# Altium integrated library Infineon_Power_MOSFET.IntLib: 1448 symbols (part 45 of 47)
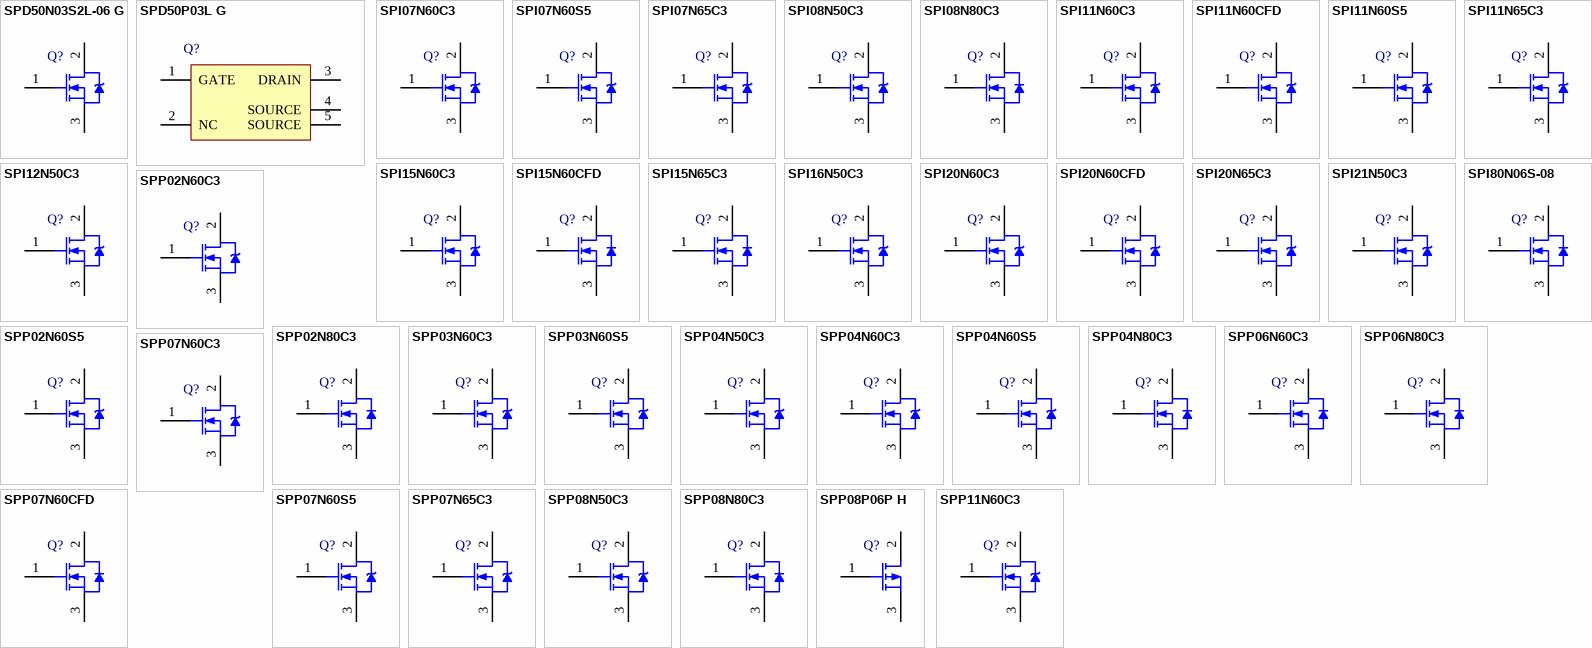
[diagram p81: symbols SPD50N03S2L-06 G to SPP11N60C3]

## SPP02N80C3
designator Q?
N-Channel CoolMOS Power-Transistor, 800 V VDS, 2 A ID, -55 to 150 degC, PG-TO220-3-1, Tube, Green; Manufacturer: Infineon; PartNumber: SPP02N80C3; Green: TRUE; ID (max): 2 A; IDpuls (max): 6 A; Polarity: N; Ptot (max): 42 W; QG: 12 nC; RDS (on) (max): 2,700 mOhm; Rth: 3 K/W; RthJA (max): 62 K/W; VDS (max): 800 V; VGS(th) (max): 3.9 V; VGS(th) (min): 2.1 V; DatasheetVersion: Rev. 2.91; PackageVersion: Jul-12; PackageReference: PG-TO220-3-1; PackageDescription: 3-Pin Plastic (Green) Transistor Single Outline Package, 10 x 9.25 mm Body, 2.54 mm Pitch; Supplier 1: Mouser; Supplier Part Number 1: 726-SPP02N80C3; Supplier 2: Digi-Key; Supplier Part Number 2: SPP02N80C3IN-ND; Halogen-free: TRUE; Packing: Tube; RthJC (max): 3 K/W; Technology: CoolMOS C3; Mounting Technology: Through Hole; ComponentLink1Description: Manufacturer URL; ComponentLink1URL: http://www.infineon.com/; ComponentLink2Description: Datasheet; ComponentLink2URL: http://www.infineon.com/dgdl/SPP02N80C3_rev2.91.pdf?folderId=db3a3043163797a6011638491238009b&fileId=db3a30432313ff5e0123a8f1e75f5c57; ComponentLink3Description: Package Specification; ComponentLink3URL: http://www.infineon.com/dgdl/BTS117_DS_14.pdf?folderId=db3a30431400ef68011421b54e2e0564&fileId=db3a30433a747525013abff8302d549c&location=en.Products.Automotive_ICs.Smart_High-_and_Low-Side_Switches.HITFET___TEMPFET__-_Smart_Low-Side_Switches.DATASHEET.BTS117_DS_14.pdf
footprint INF-PG-TO220-3-1 (FM, 3-Leads, Body 10x4.4mm, Pitch 2.54mm)
pins: 1 GATE, 2 DRAIN, 3 SOURCE

## SPP03N60C3
designator Q?
N-Channel CoolMOS Power-Transistor, 600 V VDS, 3.2 A ID, -55 to 150 degC, PG-TO220-3-1, Tube, Green; Manufacturer: Infineon; PartNumber: SPP03N60C3; Green: TRUE; ID (max): 3.2 A; IDpuls (max): 9.6 A; Polarity: N; Ptot (max): 38 W; QG: 13 nC; RDS (on) (max): 1,400 mOhm; Rth: 3.3 K/W; RthJA (max): 62 K/W; VDS (max): 600 V; VGS(th) (max): 3.9 V; VGS(th) (min): 2.1 V; DatasheetVersion: Rev. 3.1; PackageVersion: Jul-12; PackageReference: PG-TO220-3-1; PackageDescription: 3-Pin Plastic (Green) Transistor Single Outline Package, 10 x 9.25 mm Body, 2.54 mm Pitch; Supplier 1: Mouser; Supplier Part Number 1: 726-SPP03N60C3; Supplier 2: Digi-Key; Supplier Part Number 2: SPP03N60C3IN-ND; Packing: Tube; RthJC (max): 3.3 K/W; Technology: CoolMOS C3; Mounting Technology: Through Hole; ComponentLink1Description: Manufacturer URL; ComponentLink1URL: http://www.infineon.com/; ComponentLink2Description: Datasheet; ComponentLink2URL: http://www.infineon.com/dgdl/SPP_A03N60C3_Rev.3.1.pdf?folderId=db3a304412b407950112b408e8c90004&fileId=db3a304412b407950112b42dfb1c492b; ComponentLink3Description: Package Specification; ComponentLink3URL: http://www.infineon.com/dgdl/BTS117_DS_14.pdf?folderId=db3a30431400ef68011421b54e2e0564&fileId=db3a30433a747525013abff8302d549c&location=en.Products.Automotive_ICs.Smart_High-_and_Low-Side_Switches.HITFET___TEMPFET__-_Smart_Low-Side_Switches.DATASHEET.BTS117_DS_14.pdf
footprint INF-PG-TO220-3-1 (FM, 3-Leads, Body 10x4.4mm, Pitch 2.54mm)
pins: 1 GATE, 2 DRAIN, 3 SOURCE

## SPP03N60S5
designator Q?
N-Channel CoolMOS Power-Transistor, 600 V VDS, 3.2 A ID, -55 to 150 degC, PG-TO220-3-1, Tube, Green; Manufacturer: Infineon; PartNumber: SPP03N60S5; Green: TRUE; ID (max): 3.2 A; IDpuls (max): 5.7 A; Polarity: N; Ptot (max): 38 W; QG: 12.4 nC; RDS (on) (max): 1,400 mOhm; Rth: 3.3 K/W; RthJA (max): 62 K/W; VDS (max): 600 V; VGS(th) (max): 5.5 V; VGS(th) (min): 3.5 V; DatasheetVersion: Rev. 2.7; PackageVersion: Jul-12; PackageReference: PG-TO220-3-1; PackageDescription: 3-Pin Plastic (Green) Transistor Single Outline Package, 10 x 9.25 mm Body, 2.54 mm Pitch; Supplier 1: Mouser; Supplier Part Number 1: 726-SPP03N60S5; Supplier 2: Digi-Key; Supplier Part Number 2: SPP03N60S5IN-ND; Packing: Tube; RthJC (max): 3.3 K/W; Technology: CoolMOS S5; Mounting Technology: Through Hole; ComponentLink1Description: Manufacturer URL; ComponentLink1URL: http://www.infineon.com/; ComponentLink2Description: Datasheet; ComponentLink2URL: http://www.infineon.com/dgdl/SPP03N60S5_Rev.2.7.pdf?folderId=db3a304412b407950112b408e8c90004&fileId=db3a304412b407950112b42c7ad9470b; ComponentLink3Description: Package Specification; ComponentLink3URL: http://www.infineon.com/dgdl/BTS117_DS_14.pdf?folderId=db3a30431400ef68011421b54e2e0564&fileId=db3a30433a747525013abff8302d549c&location=en.Products.Automotive_ICs.Smart_High-_and_Low-Side_Switches.HITFET___TEMPFET__-_Smart_Low-Side_Switches.DATASHEET.BTS117_DS_14.pdf
footprint INF-PG-TO220-3-1 (FM, 3-Leads, Body 10x4.4mm, Pitch 2.54mm)
pins: 1 GATE, 2 DRAIN, 3 SOURCE

## SPP04N50C3
designator Q?
N-Channel CoolMOS Power-Transistor, 500 V VDS, 4.5 A ID, -55 to 150 degC, PG-TO220-3-1, Tube, Green; Manufacturer: Infineon; PartNumber: SPP04N50C3; Green: TRUE; ID (max): 4.5 A; IDpuls (max): 13.5 A; Polarity: N; Ptot (max): 50 W; QG: 22 nC; RDS (on) (max): 950 mOhm; Rth: 2.5 K/W; RthJA (max): 62 K/W; VDS (max): 500 V; VGS(th) (max): 3.9 V; VGS(th) (min): 2.1 V; DatasheetVersion: Rev. 2.9; PackageVersion: Jul-12; PackageReference: PG-TO220-3-1; PackageDescription: 3-Pin Plastic (Green) Transistor Single Outline Package, 10 x 9.25 mm Body, 2.54 mm Pitch; Supplier 1: Mouser; Supplier Part Number 1: 726-SPP04N50C3; Supplier 2: Farnell; Supplier Part Number 2: 2289562; Supplier 3: Digi-Key; Supplier Part Number 3: SPP04N50C3IN-ND; Packing: Tube; RthJC (max): 2.5 K/W; Technology: CoolMOS C3; Mounting Technology: Through Hole; ComponentLink1Description: Manufacturer URL; ComponentLink1URL: http://www.infineon.com/; ComponentLink2Description: Datasheet; ComponentLink2URL: http://www.infineon.com/dgdl/SPP_A04N50C3_Rev.2.9.pdf?folderId=db3a304412b407950112b408e8c90004&fileId=db3a304412b407950112b42cfc9247e4; ComponentLink3Description: Package Specification; ComponentLink3URL: http://www.infineon.com/dgdl/BTS117_DS_14.pdf?folderId=db3a30431400ef68011421b54e2e0564&fileId=db3a30433a747525013abff8302d549c&location=en.Products.Automotive_ICs.Smart_High-_and_Low-Side_Switches.HITFET___TEMPFET__-_Smart_Low-Side_Switches.DATASHEET.BTS117_DS_14.pdf
footprint INF-PG-TO220-3-1 (FM, 3-Leads, Body 10x4.4mm, Pitch 2.54mm)
pins: 1 GATE, 2 DRAIN, 3 SOURCE

## SPP04N60C3
designator Q?
N-Channel CoolMOS Power-Transistor, 600 V VDS, 4.5 A ID, -55 to 150 degC, PG-TO220-3-1, Tube, Green; Manufacturer: Infineon; PartNumber: SPP04N60C3; Green: TRUE; ID (max): 4.5 A; IDpuls (max): 13.5 A; Polarity: N; Ptot (max): 50 W; QG: 19 nC; RDS (on) (max): 950 mOhm; Rth: 2.5 K/W; RthJA (max): 62 K/W; VDS (max): 600 V; VGS(th) (max): 3.9 V; VGS(th) (min): 2.1 V; DatasheetVersion: Rev. 3.1; PackageVersion: Jul-12; PackageReference: PG-TO220-3-1; PackageDescription: 3-Pin Plastic (Green) Transistor Single Outline Package, 10 x 9.25 mm Body, 2.54 mm Pitch; Supplier 1: Mouser; Supplier Part Number 1: 726-SPP04N60C3; Supplier 2: Digi-Key; Supplier Part Number 2: SPP04N60C3IN-ND; Packing: Tube; RthJC (max): 2.5 K/W; Technology: CoolMOS C3; Mounting Technology: Through Hole; ComponentLink1Description: Manufacturer URL; ComponentLink1URL: http://www.infineon.com/; ComponentLink2Description: Datasheet; ComponentLink2URL: http://www.infineon.com/dgdl/SPP_A04N60C3_Rev.3.1.pdf?folderId=db3a304412b407950112b408e8c90004&fileId=db3a304412b407950112b42dd6a14900; ComponentLink3Description: Package Specification; ComponentLink3URL: http://www.infineon.com/dgdl/BTS117_DS_14.pdf?folderId=db3a30431400ef68011421b54e2e0564&fileId=db3a30433a747525013abff8302d549c&location=en.Products.Automotive_ICs.Smart_High-_and_Low-Side_Switches.HITFET___TEMPFET__-_Smart_Low-Side_Switches.DATASHEET.BTS117_DS_14.pdf
footprint INF-PG-TO220-3-1 (FM, 3-Leads, Body 10x4.4mm, Pitch 2.54mm)
pins: 1 GATE, 2 DRAIN, 3 SOURCE

## SPP04N60S5
designator Q?
Cool MOS Power Transistor, 600 V VDS, 4.5 A ID, PG-TO220-3-1, Tube, Green; Manufacturer: Infineon; PartNumber: SPP04N60S5; Green: TRUE; ID (max): 4.5 A; Polarity: N; RDS (on) (max): 950 mOhm; VDS (max): 600 V; DatasheetVersion: Rev. 2.7; PackageVersion: Jul-12; PackageReference: PG-TO220-3-1; PackageDescription: 3-Pin Plastic (Green) Transistor Single Outline Package, 10 x 9.25 mm Body, 2.54 mm Pitch; Supplier 1: Digi-Key; Supplier Part Number 1: SPP04N60S5IN-ND; Halogen-free: FALSE; Packing: Tube; Mounting Technology: Through Hole; ComponentLink1Description: Manufacturer URL; ComponentLink1URL: http://www.infineon.com/; ComponentLink2Description: Datasheet; ComponentLink2URL: http://www.infineon.com/dgdl/SPP04N60S5_Rev.2.7.pdf?folderId=db3a304412b407950112b408e8c90004&fileId=db3a304412b407950112b42c7dfe470f; ComponentLink3Description: Package Specification; ComponentLink3URL: http://www.infineon.com/dgdl/BTS117_DS_14.pdf?folderId=db3a30431400ef68011421b54e2e0564&fileId=db3a30433a747525013abff8302d549c&location=en.Products.Automotive_ICs.Smart_High-_and_Low-Side_Switches.HITFET___TEMPFET__-_Smart_Low-Side_Switches.DATASHEET.BTS117_DS_14.pdf
footprint INF-PG-TO220-3-1 (FM, 3-Leads, Body 10x4.4mm, Pitch 2.54mm)
pins: 1 GATE, 2 DRAIN, 3 SOURCE

## SPP04N80C3
designator Q?
N-Channel CoolMOS Power-Transistor, 800 V VDS, 4 A ID, -55 to 150 degC, PG-TO220-3-1, Tube, Green; Manufacturer: Infineon; PartNumber: SPP04N80C3; Green: TRUE; ID (max): 4 A; IDpuls (max): 12 A; Polarity: N; Ptot (max): 63 W; QG: 23 nC; RDS (on) (max): 1,300 mOhm; Rth: 2 K/W; RthJA (max): 62 K/W; VDS (max): 800 V; VGS(th) (max): 3.9 V; VGS(th) (min): 2.1 V; DatasheetVersion: Rev. 2.91; PackageVersion: Jul-12; PackageReference: PG-TO220-3-1; PackageDescription: 3-Pin Plastic (Green) Transistor Single Outline Package, 10 x 9.25 mm Body, 2.54 mm Pitch; Supplier 1: Mouser; Supplier Part Number 1: 726-SPP04N80C3; Supplier 2: Digi-Key; Supplier Part Number 2: SPP04N80C3IN-ND; Halogen-free: TRUE; Packing: Tube; RthJC (max): 2 K/W; Technology: CoolMOS C3; Mounting Technology: Through Hole; ComponentLink1Description: Manufacturer URL; ComponentLink1URL: http://www.infineon.com/; ComponentLink2Description: Datasheet; ComponentLink2URL: http://www.infineon.com/dgdl/SPP04N80C3_rev2.91.pdf?folderId=db3a3043163797a6011638491238009b&fileId=db3a30432313ff5e0123a8f71e205c68; ComponentLink3Description: Package Specification; ComponentLink3URL: http://www.infineon.com/dgdl/BTS117_DS_14.pdf?folderId=db3a30431400ef68011421b54e2e0564&fileId=db3a30433a747525013abff8302d549c&location=en.Products.Automotive_ICs.Smart_High-_and_Low-Side_Switches.HITFET___TEMPFET__-_Smart_Low-Side_Switches.DATASHEET.BTS117_DS_14.pdf
footprint INF-PG-TO220-3-1 (FM, 3-Leads, Body 10x4.4mm, Pitch 2.54mm)
pins: 1 GATE, 2 DRAIN, 3 SOURCE

## SPP06N60C3
designator Q?
N-Channel CoolMOS Power-Transistor, 600 V VDS, 6.2 A ID, -55 to 150 degC, PG-TO220-3-1, Tube, Green; Manufacturer: Infineon; PartNumber: SPP06N60C3; Green: TRUE; ID (max): 6.2 A; IDpuls (max): 18.6 A; Polarity: N; Ptot (max): 74 W; QG: 24 nC; RDS (on) (max): 750 mOhm; Rth: 1.7 K/W; RthJA (max): 62 K/W; VDS (max): 600 V; VGS(th) (max): 3.9 V; VGS(th) (min): 2.1 V; DatasheetVersion: Rev. 1.4; PackageVersion: Jul-12; PackageReference: PG-TO220-3-1; PackageDescription: 3-Pin Plastic (Green) Transistor Single Outline Package, 10 x 9.25 mm Body, 2.54 mm Pitch; Supplier 1: Mouser; Supplier Part Number 1: 726-SPP06N60C3; Supplier 2: Newark; Supplier Part Number 2: 62M0153; Supplier 3: Farnell; Supplier Part Number 3: 1471802; Supplier 4: Digi-Key; Supplier Part Number 4: SPP06N60C3IN-ND; Packing: Tube; RthJC (max): 1.7 K/W; Technology: CoolMOS C3; Mounting Technology: Through Hole; ComponentLink1Description: Manufacturer URL; ComponentLink1URL: http://www.infineon.com/; ComponentLink2Description: Datasheet; ComponentLink2URL: http://www.infineon.com/dgdl/SPP06N60C3_rev1.4.pdf?folderId=db3a304412b407950112b408e8c90004&fileId=db3a304412b407950112b42e2a60496d; ComponentLink3Description: Package Specification; ComponentLink3URL: http://www.infineon.com/dgdl/BTS117_DS_14.pdf?folderId=db3a30431400ef68011421b54e2e0564&fileId=db3a30433a747525013abff8302d549c&location=en.Products.Automotive_ICs.Smart_High-_and_Low-Side_Switches.HITFET___TEMPFET__-_Smart_Low-Side_Switches.DATASHEET.BTS117_DS_14.pdf
footprint INF-PG-TO220-3-1 (FM, 3-Leads, Body 10x4.4mm, Pitch 2.54mm)
pins: 1 GATE, 2 DRAIN, 3 SOURCE

## SPP06N80C3
designator Q?
N-Channel CoolMOS Power-Transistor, 800 V VDS, 6 A ID, -55 to 150 degC, PG-TO220-3-1, Tube, Green; Manufacturer: Infineon; PartNumber: SPP06N80C3; ID (max): 6 A; IDpuls (max): 18 A; Polarity: N; Ptot (max): 83 W; QG: 31 nC; RDS (on) (max): 900 mOhm; Rth: 1.5 K/W; RthJA (max): 62 K/W; VDS (max): 800 V; VGS(th) (max): 3.9 V; VGS(th) (min): 2.1 V; DatasheetVersion: Rev. 2.91; PackageVersion: Jul-12; PackageReference: PG-TO220-3-1; PackageDescription: 3-Pin Plastic (Green) Transistor Single Outline Package, 10 x 9.25 mm Body, 2.54 mm Pitch; Supplier 1: Mouser; Supplier Part Number 1: 726-SPP06N80C3; Supplier 2: Digi-Key; Supplier Part Number 2: SPP06N80C3IN-ND; Packing: Tube; RthJC (max): 1.5 K/W; Technology: CoolMOS C3; Mounting Technology: Through Hole; ComponentLink1Description: Manufacturer URL; ComponentLink1URL: http://www.infineon.com/; ComponentLink2Description: Datasheet; ComponentLink2URL: http://www.infineon.com/dgdl/SPP06N80C3_rev2.91.pdf?folderId=db3a3043163797a6011638491238009b&fileId=db3a30432313ff5e0123a8fd3e665c78; ComponentLink3Description: Package Specification; ComponentLink3URL: http://www.infineon.com/dgdl/BTS117_DS_14.pdf?folderId=db3a30431400ef68011421b54e2e0564&fileId=db3a30433a747525013abff8302d549c&location=en.Products.Automotive_ICs.Smart_High-_and_Low-Side_Switches.HITFET___TEMPFET__-_Smart_Low-Side_Switches.DATASHEET.BTS117_DS_14.pdf
footprint INF-PG-TO220-3-1 (FM, 3-Leads, Body 10x4.4mm, Pitch 2.54mm)
pins: 1 GATE, 2 DRAIN, 3 SOURCE

## SPP07N60C3
designator Q?
N-Channel CoolMOS Power-Transistor, 600 V VDS, 7.3 A ID, -55 to 150 degC, PG-TO220-3-1, Tube, Green; Manufacturer: Infineon; PartNumber: SPP07N60C3; Green: TRUE; ID (max): 7.3 A; IDpuls (max): 21.9 A; Polarity: N; Ptot (max): 83 W; QG: 21 nC; RDS (on) (max): 600 mOhm; Rth: 1.5 K/W; RthJA (max): 62 K/W; VDS (max): 600 V; VGS(th) (max): 3.9 V; VGS(th) (min): 2.1 V; DatasheetVersion: Rev. 3.2; PackageVersion: Jul-12; PackageReference: PG-TO220-3-1; PackageDescription: 3-Pin Plastic (Green) Transistor Single Outline Package, 10 x 9.25 mm Body, 2.54 mm Pitch; Supplier 1: Mouser; Supplier Part Number 1: 726-SPP07N60C3; Supplier 2: Newark; Supplier Part Number 2: 95W8642; Supplier 3: Farnell; Supplier Part Number 3: 2325466; Supplier 4: Digi-Key; Supplier Part Number 4: SPP07N60C3IN-ND; Packing: Tube; RthJC (max): 1.5 K/W; Technology: CoolMOS C3; Mounting Technology: Through Hole; ComponentLink1Description: Manufacturer URL; ComponentLink1URL: http://www.infineon.com/; ComponentLink2Description: Datasheet; ComponentLink2URL: http://www.infineon.com/dgdl/SPP_A_I07N60C3_Rev.3.2.pdf?folderId=db3a304412b407950112b408e8c90004&fileId=db3a304412b407950112b42de18b490c; ComponentLink3Description: Package Specification; ComponentLink3URL: http://www.infineon.com/dgdl/BTS117_DS_14.pdf?folderId=db3a30431400ef68011421b54e2e0564&fileId=db3a30433a747525013abff8302d549c&location=en.Products.Automotive_ICs.Smart_High-_and_Low-Side_Switches.HITFET___TEMPFET__-_Smart_Low-Side_Switches.DATASHEET.BTS117_DS_14.pdf
footprint INF-PG-TO220-3-1 (FM, 3-Leads, Body 10x4.4mm, Pitch 2.54mm)
pins: 1 GATE, 2 DRAIN, 3 SOURCE

## SPP07N60CFD
designator Q?
N-Channel CoolMOS Power-Transistor, 600 V VDS, 6.6 A ID, -55 to 150 degC, PG-TO220-3-1, Tube, Green; Manufacturer: Infineon; PartNumber: SPP07N60CFD; Green: TRUE; ID (max): 6.6 A; IDpuls (max): 17 A; Polarity: N; Ptot (max): 83 W; QG: 35 nC; RDS (on) (max): 700 mOhm; Rth: 1.5 K/W; RthJA (max): 62 K/W; VDS (max): 600 V; VGS(th) (max): 5 V; VGS(th) (min): 3 V; DatasheetVersion: Rev. 1.4; PackageVersion: Jul-12; PackageReference: PG-TO220-3-1; PackageDescription: 3-Pin Plastic (Green) Transistor Single Outline Package, 10 x 9.25 mm Body, 2.54 mm Pitch; Supplier 1: Mouser; Supplier Part Number 1: 726-SPP07N60CFD; Supplier 2: Digi-Key; Supplier Part Number 2: SPP07N60CFD-ND; Packing: Tube; RthJC (max): 1.5 K/W; Technology: CoolMOS CFD; Mounting Technology: Through Hole; ComponentLink1Description: Manufacturer URL; ComponentLink1URL: http://www.infineon.com/; ComponentLink2Description: Datasheet; ComponentLink2URL: http://www.infineon.com/dgdl/SPP07N60CFD_rev1.4.pdf?folderId=db3a304412b407950112b408e8c90004&fileId=db3a304412b407950112b42e6d2549c3; ComponentLink3Description: Package Specification; ComponentLink3URL: http://www.infineon.com/dgdl/BTS117_DS_14.pdf?folderId=db3a30431400ef68011421b54e2e0564&fileId=db3a30433a747525013abff8302d549c&location=en.Products.Automotive_ICs.Smart_High-_and_Low-Side_Switches.HITFET___TEMPFET__-_Smart_Low-Side_Switches.DATASHEET.BTS117_DS_14.pdf
footprint INF-PG-TO220-3-1 (FM, 3-Leads, Body 10x4.4mm, Pitch 2.54mm)
pins: 1 GATE, 2 DRAIN, 3 SOURCE

## SPP07N60S5
designator Q?
N-Channel CoolMOS Power-Transistor, 600 V VDS, 7.3 A ID, -55 to 150 degC, PG-TO220-3-1, Tube, Green; Manufacturer: Infineon; PartNumber: SPP07N60S5; Green: TRUE; ID (max): 7.3 A; IDpuls (max): 14.6 A; Polarity: N; Ptot (max): 83 W; QG: 27 nC; RDS (on) (max): 600 mOhm; Rth: 1.5 K/W; RthJA (max): 62 K/W; VDS (max): 600 V; VGS(th) (max): 5.5 V; VGS(th) (min): 3.5 V; DatasheetVersion: Rev. 2.7; PackageVersion: Jul-12; PackageReference: PG-TO220-3-1; PackageDescription: 3-Pin Plastic (Green) Transistor Single Outline Package, 10 x 9.25 mm Body, 2.54 mm Pitch; Supplier 1: Mouser; Supplier Part Number 1: 726-SPP07N60S5; Supplier 2: Newark; Supplier Part Number 2: 98K0721; Supplier 3: Farnell; Supplier Part Number 3: 1056547; Supplier 4: Digi-Key; Supplier Part Number 4: SPP07N60S5IN-ND; Packing: Tube; RthJC (max): 1.5 K/W; Technology: CoolMOS S5; Mounting Technology: Through Hole; ComponentLink1Description: Manufacturer URL; ComponentLink1URL: http://www.infineon.com/; ComponentLink2Description: Datasheet; ComponentLink2URL: http://www.infineon.com/dgdl/SPP_I07N60S5_Rev.2.7.pdf?folderId=db3a304412b407950112b408e8c90004&fileId=db3a304412b407950112b42c81144713; ComponentLink3Description: Package Specification; ComponentLink3URL: http://www.infineon.com/dgdl/BTS117_DS_14.pdf?folderId=db3a30431400ef68011421b54e2e0564&fileId=db3a30433a747525013abff8302d549c&location=en.Products.Automotive_ICs.Smart_High-_and_Low-Side_Switches.HITFET___TEMPFET__-_Smart_Low-Side_Switches.DATASHEET.BTS117_DS_14.pdf
footprint INF-PG-TO220-3-1 (FM, 3-Leads, Body 10x4.4mm, Pitch 2.54mm)
pins: 1 GATE, 2 DRAIN, 3 SOURCE

## SPP07N65C3
designator Q?
N-Channel CoolMOS Power-Transistor, 650 V VDS, 7.3 A ID, -55 to 150 degC, PG-TO220-3-1, Tube, Green; Manufacturer: Infineon; PartNumber: SPP07N65C3; Green: TRUE; ID (max): 7.3 A; IDpuls (max): 21.9 A; Mode: Enhancement; Polarity: N; Ptot (max): 83 W; QG: 21 nC; RDS (on) (max): 600 mOhm; Rth: 1.5 K/W; RthJA (max): 62 K/W; VDS (max): 650 V; VGS(th) (max): 3.9 V; VGS(th) (min): 2.1 V; DatasheetVersion: Rev. 1.91; PackageVersion: Jul-12; PackageReference: PG-TO220-3-1; PackageDescription: 3-Pin Plastic (Green) Transistor Single Outline Package, 10 x 9.25 mm Body, 2.54 mm Pitch; Supplier 1: Mouser; Supplier Part Number 1: 726-SPP07N65C3; Supplier 2: Digi-Key; Supplier Part Number 2: SPP07N65C3IN-ND; Packing: Tube; RthJC (max): 1.5 K/W; Technology: CoolMOS C3; Mounting Technology: Through Hole; ComponentLink1Description: Manufacturer URL; ComponentLink1URL: http://www.infineon.com/; ComponentLink2Description: Datasheet; ComponentLink2URL: http://www.infineon.com/dgdl/SPP_A_I07N65C3_Rev.1.91.pdf?folderId=db3a304412b407950112b408e8c90004&fileId=db3a304412b407950112b42ea7e74a0b; ComponentLink3Description: Package Specification; ComponentLink3URL: http://www.infineon.com/dgdl/BTS117_DS_14.pdf?folderId=db3a30431400ef68011421b54e2e0564&fileId=db3a30433a747525013abff8302d549c&location=en.Products.Automotive_ICs.Smart_High-_and_Low-Side_Switches.HITFET___TEMPFET__-_Smart_Low-Side_Switches.DATASHEET.BTS117_DS_14.pdf
footprint INF-PG-TO220-3-1 (FM, 3-Leads, Body 10x4.4mm, Pitch 2.54mm)
pins: 1 GATE, 2 DRAIN, 3 SOURCE

## SPP08N50C3
designator Q?
N-Channel CoolMOS Power-Transistor, 500 V VDS, 7.6 A ID, -55 to 150 degC, PG-TO220-3-1, Tube, Green; Manufacturer: Infineon; PartNumber: SPP08N50C3; Green: TRUE; ID (max): 7.6 A; IDpuls (max): 22.8 A; Polarity: N; Ptot (max): 83 W; QG: 32 nC; RDS (on) (max): 600 mOhm; Rth: 1.5 K/W; RthJA (max): 62 K/W; VDS (max): 500 V; VGS(th) (max): 3.9 V; VGS(th) (min): 2.1 V; DatasheetVersion: Rev. 2.91; PackageVersion: Jul-12; PackageReference: PG-TO220-3-1; PackageDescription: 3-Pin Plastic (Green) Transistor Single Outline Package, 10 x 9.25 mm Body, 2.54 mm Pitch; Supplier 1: Mouser; Supplier Part Number 1: 726-SPP08N50C3; Supplier 2: Digi-Key; Supplier Part Number 2: SPP08N50C3IN-ND; Packing: Tube; RthJC (max): 1.5 K/W; Technology: CoolMOS C3; Mounting Technology: Through Hole; ComponentLink1Description: Manufacturer URL; ComponentLink1URL: http://www.infineon.com/; ComponentLink2Description: Datasheet; ComponentLink2URL: http://www.infineon.com/dgdl/SPP_I_A08N50C3_Rev.2.91.pdf?folderId=db3a304412b407950112b408e8c90004&fileId=db3a304412b407950112b42d13a947ff; ComponentLink3Description: Package Specification; ComponentLink3URL: http://www.infineon.com/dgdl/BTS117_DS_14.pdf?folderId=db3a30431400ef68011421b54e2e0564&fileId=db3a30433a747525013abff8302d549c&location=en.Products.Automotive_ICs.Smart_High-_and_Low-Side_Switches.HITFET___TEMPFET__-_Smart_Low-Side_Switches.DATASHEET.BTS117_DS_14.pdf
footprint INF-PG-TO220-3-1 (FM, 3-Leads, Body 10x4.4mm, Pitch 2.54mm)
pins: 1 GATE, 2 DRAIN, 3 SOURCE

## SPP08N80C3
designator Q?
N-Channel CoolMOS Power-Transistor, 800 V VDS, 8 A ID, -55 to 150 degC, PG-TO220-3-1, Tube, Green; Manufacturer: Infineon; PartNumber: SPP08N80C3; Green: TRUE; ID (max): 8 A; IDpuls (max): 24 A; Polarity: N; Ptot (max): 104 W; QG: 44 nC; RDS (on) (max): 650 mOhm; Rth: 1.2 K/W; RthJA (max): 62 K/W; VDS (max): 800 V; VGS(th) (max): 3.9 V; VGS(th) (min): 2.1 V; DatasheetVersion: Rev. 2.91; PackageVersion: Jul-12; PackageReference: PG-TO220-3-1; PackageDescription: 3-Pin Plastic (Green) Transistor Single Outline Package, 10 x 9.25 mm Body, 2.54 mm Pitch; Supplier 1: Mouser; Supplier Part Number 1: 726-SPP08N80C3; Supplier 2: Digi-Key; Supplier Part Number 2: SPP08N80C3IN-ND; Halogen-free: TRUE; Packing: Tube; RthJC (max): 1.2 K/W; Technology: CoolMOS C3; Mounting Technology: Through Hole; ComponentLink1Description: Manufacturer URL; ComponentLink1URL: http://www.infineon.com/; ComponentLink2Description: Datasheet; ComponentLink2URL: http://www.infineon.com/dgdl/SPP08N80C3_rev2.91.pdf?folderId=db3a3043163797a6011638491238009b&fileId=db3a30432313ff5e0123a905a6005c8a; ComponentLink3Description: Package Specification; ComponentLink3URL: http://www.infineon.com/dgdl/BTS117_DS_14.pdf?folderId=db3a30431400ef68011421b54e2e0564&fileId=db3a30433a747525013abff8302d549c&location=en.Products.Automotive_ICs.Smart_High-_and_Low-Side_Switches.HITFET___TEMPFET__-_Smart_Low-Side_Switches.DATASHEET.BTS117_DS_14.pdf
footprint INF-PG-TO220-3-1 (FM, 3-Leads, Body 10x4.4mm, Pitch 2.54mm)
pins: 1 GATE, 2 DRAIN, 3 SOURCE

## SPP08P06P H
designator Q?
P-Channel SIPMOS Power-Transistor, -60 V VDS, -8.8 A ID, -55 to 175 degC, PG-TO220-3-1, Tube, Green; Manufacturer: Infineon; PartNumber: SPP08P06P H; Green: TRUE; ID (max): -8.8 A; IDpuls (max): -35.2 A; Pto t (max): 42 W; QG: 10 nC; RDS (on) (max): 300 mOhm; Rth: 3.6 K/W; VDS (max): -60 V; VGS(th) (max): -4 V; VGS(th) (min): -2.1 V; DatasheetVersion: Rev. 1.6; PackageVersion: Rev. 05, 08/2007; PackageReference: PG-TO220-3-1; PackageDescription: 3-Pin Plastic (Green) Transistor Single Outline Package, 10.03 x 8.98 mm Body, 2.54 mm Pitch; Supplier 1: Mouser; Supplier Part Number 1: 726-SPP08P06PH; Supplier 2: Newark; Supplier Part Number 2: 79X1964; Supplier 3: Farnell; Supplier Part Number 3: 2432732; Supplier 4: Digi-Key; Supplier Part Number 4: SPP08P06P H-ND; Halogen-free: TRUE; Packing: Tube; RthJC (max): 3.6 K/W; Mounting Technology: Through Hole; ComponentLink1Description: Manufacturer URL; ComponentLink1URL: http://www.infineon.com/; ComponentLink2Description: Datasheet; ComponentLink2URL: http://www.infineon.com/dgdl/SPP08P06P+H+_Rev1.6.pdf?folderId=db3a3043156fd5730115d6a107c41454&fileId=db3a304325afd6e001264b5840530c71; ComponentLink3Description: Package Specification; ComponentLink3URL: http://www.infineon.com/dgdl/IPP028N08N3_Rev1%5B1%5D.0.pdf?folderId=db3a304313b8b5a60113cee8763b02d7&fileId=db3a30432313ff5e0123a3c08e7326b5
footprint INF-PG-TO220-3-1_A_V (FM, 3-Leads, Body 10.03x8.98mm, Pitch 2.54mm)
pins: 1 G, 2 D, 3 S

## SPP11N60C3
designator Q?
N-Channel CoolMOS Power-Transistor, 600 V VDS, 11 A ID, -55 to 150 degC, PG-TO220-3-1, Tube, Green; Manufacturer: Infineon; PartNumber: SPP11N60C3; Green: TRUE; ID (max): 11 A; IDpuls (max): 33 A; Polarity: N; Ptot (max): 125 W; QG: 45 nC; RDS (on) (max): 380 mOhm; Rth: 1 K/W; RthJA (max): 62 K/W; VDS (max): 600 V; VGS(th) (max): 3.9 V; VGS(th) (min): 2.1 V; DatasheetVersion: Rev. 3.3; PackageVersion: Jul-12; PackageReference: PG-TO220-3-1; PackageDescription: 3-Pin Plastic (Green) Transistor Single Outline Package, 10 x 9.25 mm Body, 2.54 mm Pitch; Supplier 1: Mouser; Supplier Part Number 1: 726-SPP11N60C3; Supplier 2: Newark; Supplier Part Number 2: 98K0724; Supplier 3: Farnell; Supplier Part Number 3: 1056549; Supplier 4: Digi-Key; Supplier Part Number 4: SPP11N60C3IN-ND; Packing: Tube; RthJC (max): 1 K/W; Technology: CoolMOS C3; Mounting Technology: Through Hole; ComponentLink1Description: Manufacturer URL; ComponentLink1URL: http://www.infineon.com/; ComponentLink2Description: Datasheet; ComponentLink2URL: http://www.infineon.com/dgdl/SPP_I_A11N60C3_E8185_Rev.3.3.pdf?folderId=db3a304412b407950112b408e8c90004&fileId=db3a304412b407950112b42e2e114971; ComponentLink3Description: Package Specification; ComponentLink3URL: http://www.infineon.com/dgdl/BTS117_DS_14.pdf?folderId=db3a30431400ef68011421b54e2e0564&fileId=db3a30433a747525013abff8302d549c&location=en.Products.Automotive_ICs.Smart_High-_and_Low-Side_Switches.HITFET___TEMPFET__-_Smart_Low-Side_Switches.DATASHEET.BTS117_DS_14.pdf
footprint INF-PG-TO220-3-1 (FM, 3-Leads, Body 10x4.4mm, Pitch 2.54mm)
pins: 1 GATE, 2 DRAIN, 3 SOURCE

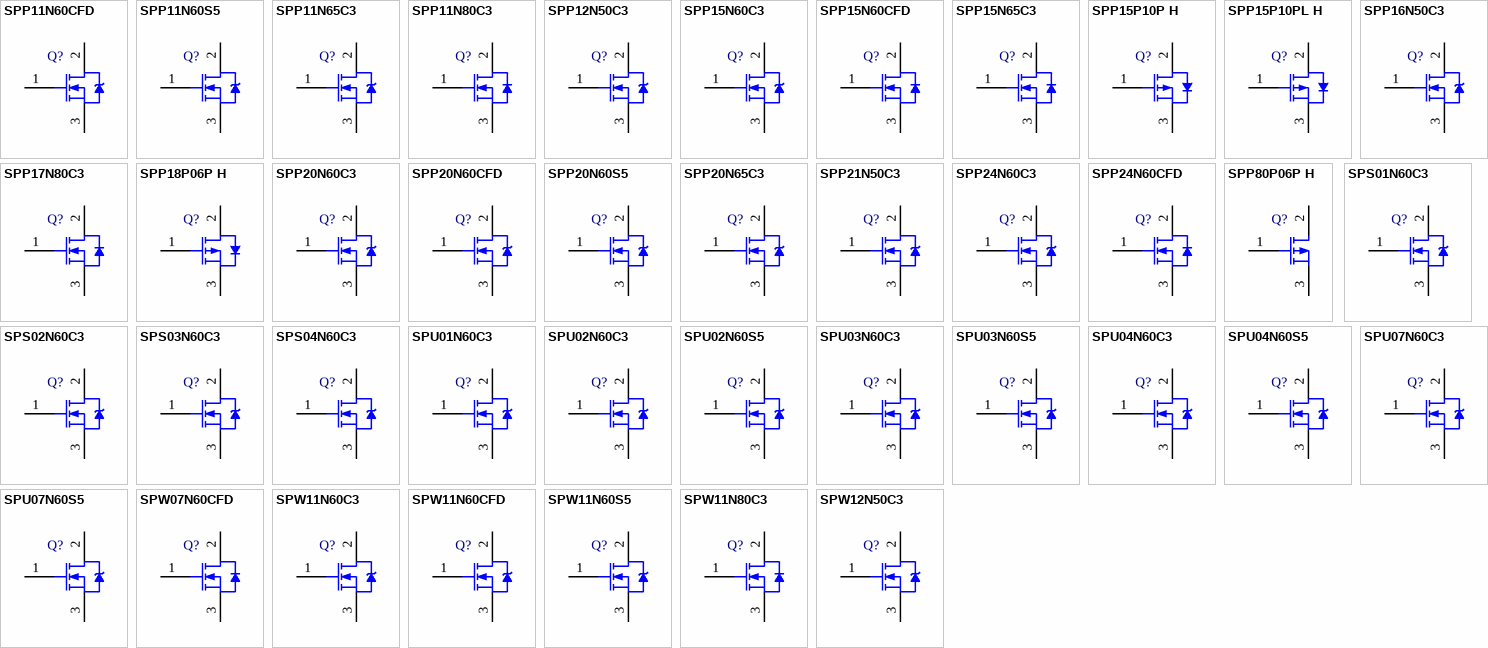
[diagram p36: symbols SPP11N60CFD to SPW12N50C3]

## SPP11N60CFD
designator Q?
N-Channel CoolMOS Power-Transistor, 600 V VDS, 11 A ID, -55 to 150 degC, PG-TO220-3-1, Tube, Green; Manufacturer: Infineon; PartNumber: SPP11N60CFD; Green: TRUE; ID (max): 11 A; IDpuls (max): 28 A; Polarity: N; Ptot (max): 125 W; QG: 48 nC; RDS (on) (max): 440 mOhm; Rth: 1 K/W; RthJA (max): 62 K/W; VDS (max): 600 V; VGS(th) (max): 5 V; VGS(th) (min): 3 V; DatasheetVersion: Rev. 2.7; PackageVersion: Jul-12; PackageReference: PG-TO220-3-1; PackageDescription: 3-Pin Plastic (Green) Transistor Single Outline Package, 10 x 9.25 mm Body, 2.54 mm Pitch; Supplier 1: Mouser; Supplier Part Number 1: 726-SPP11N60CFD; Supplier 2: Digi-Key; Supplier Part Number 2: SPP11N60CFDIN-ND; Packing: Tube; RthJC (max): 1 K/W; Technology: CoolMOS CFD; Mounting Technology: Through Hole; ComponentLink1Description: Manufacturer URL; ComponentLink1URL: http://www.infineon.com/; ComponentLink2Description: Datasheet; ComponentLink2URL: http://www.infineon.com/dgdl/SPP11N60CFD_Rev.2.7.pdf?folderId=db3a304412b407950112b408e8c90004&fileId=db3a304412b407950112b42bfcec4645; ComponentLink3Description: Package Specification; ComponentLink3URL: http://www.infineon.com/dgdl/BTS117_DS_14.pdf?folderId=db3a30431400ef68011421b54e2e0564&fileId=db3a30433a747525013abff8302d549c&location=en.Products.Automotive_ICs.Smart_High-_and_Low-Side_Switches.HITFET___TEMPFET__-_Smart_Low-Side_Switches.DATASHEET.BTS117_DS_14.pdf
footprint INF-PG-TO220-3-1 (FM, 3-Leads, Body 10x4.4mm, Pitch 2.54mm)
pins: 1 GATE, 2 DRAIN, 3 SOURCE

## SPP11N60S5
designator Q?
N-Channel CoolMOS Power-Transistor, 600 V VDS, 11 A ID, -55 to150 degC, PG-TO220-3-1, Tube, Green; Manufacturer: Infineon; PartNumber: SPP11N60S5; Green: TRUE; ID (max): 11 A; IDpuls (max): 22 A; Polarity: N; Ptot (max): 125 W; QG: 41.5 nC; RDS (on) (max): 380 mOhm; Rth: 1 K/W; RthJA (max): 62 K/W; VDS (max): 600 V; VGS(th) (max): 5.5 V; VGS(th) (min): 3.5 V; DatasheetVersion: Rev. 2.7; PackageVersion: Jul-12; PackageReference: PG-TO220-3-1; PackageDescription: 3-Pin Plastic (Green) Transistor Single Outline Package, 10 x 9.25 mm Body, 2.54 mm Pitch; Supplier 1: Mouser; Supplier Part Number 1: 726-SPP11N60S5; Supplier 2: Digi-Key; Supplier Part Number 2: SPP11N60S5IN-ND; Packing: Tube; RthJC (max): 1 K/W; Technology: CoolMOS S5; Mounting Technology: Through Hole; ComponentLink1Description: Manufacturer URL; ComponentLink1URL: http://www.infineon.com/; ComponentLink2Description: Datasheet; ComponentLink2URL: http://www.infineon.com/dgdl/SPP_I11N60S5_Rev.2.7.pdf?folderId=db3a304412b407950112b408e8c90004&fileId=db3a304412b407950112b42d978048a7; ComponentLink3Description: Package Specification; ComponentLink3URL: http://www.infineon.com/dgdl/BTS117_DS_14.pdf?folderId=db3a30431400ef68011421b54e2e0564&fileId=db3a30433a747525013abff8302d549c&location=en.Products.Automotive_ICs.Smart_High-_and_Low-Side_Switches.HITFET___TEMPFET__-_Smart_Low-Side_Switches.DATASHEET.BTS117_DS_14.pdf
footprint INF-PG-TO220-3-1 (FM, 3-Leads, Body 10x4.4mm, Pitch 2.54mm)
pins: 1 GATE, 2 DRAIN, 3 SOURCE

## SPP11N65C3
designator Q?
N-Channel CoolMOS Power-Transistor, 650 V VDS, 11 A ID, -55 to150 degC, PG-TO220-3-1, Tube, Green; Manufacturer: Infineon; PartNumber: SPP11N65C3; Green: TRUE; ID (max): 11 A; IDpuls (max): 33 A; Mode: Enhancement; Polarity: N; Ptot (max): 125 W; QG: 45 nC; RDS (on) (max): 400 mOhm; Rth: 1 K/W; RthJA (max): 62 K/W; VDS (max): 650 V; VGS(th) (max): 3.9 V; VGS(th) (min): 2.1 V; DatasheetVersion: Rev. 2.91; PackageVersion: Jul-12; PackageReference: PG-TO220-3-1; PackageDescription: 3-Pin Plastic (Green) Transistor Single Outline Package, 10 x 9.25 mm Body, 2.54 mm Pitch; Supplier 1: Mouser; Supplier Part Number 1: 726-SPP11N65C3; Supplier 2: Digi-Key; Supplier Part Number 2: SPP11N65C3IN-ND; Packing: Tube; RthJC (max): 1 K/W; Technology: CoolMOS C3; Mounting Technology: Through Hole; ComponentLink1Description: Manufacturer URL; ComponentLink1URL: http://www.infineon.com/; ComponentLink2Description: Datasheet; ComponentLink2URL: http://www.infineon.com/dgdl/SPP_A_I11N65C3_Rev.2.91.pdf?folderId=db3a304412b407950112b408e8c90004&fileId=db3a304412b407950112b42ea0964a03; ComponentLink3Description: Package Specification; ComponentLink3URL: http://www.infineon.com/dgdl/BTS117_DS_14.pdf?folderId=db3a30431400ef68011421b54e2e0564&fileId=db3a30433a747525013abff8302d549c&location=en.Products.Automotive_ICs.Smart_High-_and_Low-Side_Switches.HITFET___TEMPFET__-_Smart_Low-Side_Switches.DATASHEET.BTS117_DS_14.pdf
footprint INF-PG-TO220-3-1 (FM, 3-Leads, Body 10x4.4mm, Pitch 2.54mm)
pins: 1 GATE, 2 DRAIN, 3 SOURCE

## SPP11N80C3
designator Q?
N-Channel CoolMOS Power-Transistor, 800 V VDS, 11 A ID, -55 to 150 degC, PG-TO220-3-1, Tube, Green; Manufacturer: Infineon; PartNumber: SPP11N80C3; Green: TRUE; ID (max): 11 A; IDpuls (max): 33 A; Polarity: N; Ptot (max): 156 W; QG: 64 nC; RDS (on) (max): 450 mOhm; Rth: 0.8 K/W; RthJA (max): 62 K/W; VDS (max): 800 V; VGS(th) (max): 3.9 V; VGS(th) (min): 2.1 V; DatasheetVersion: Rev. 2.91; PackageVersion: Jul-12; PackageReference: PG-TO220-3-1; PackageDescription: 3-Pin Plastic (Green) Transistor Single Outline Package, 10 x 9.25 mm Body, 2.54 mm Pitch; Supplier 1: Mouser; Supplier Part Number 1: 726-SPP11N80C3; Supplier 2: Digi-Key; Supplier Part Number 2: SPP11N80C3IN-ND; Halogen-free: TRUE; Packing: Tube; RthJC (max): 0.8 K/W; Technology: CoolMOS C3; Mounting Technology: Through Hole; ComponentLink1Description: Manufacturer URL; ComponentLink1URL: http://www.infineon.com/; ComponentLink2Description: Datasheet; ComponentLink2URL: http://www.infineon.com/dgdl/SPP11N80C3_rev2.91.pdf?folderId=db3a3043163797a6011638491238009b&fileId=db3a30432313ff5e0123a9132fee5c9a; ComponentLink3Description: Package Specification; ComponentLink3URL: http://www.infineon.com/dgdl/BTS117_DS_14.pdf?folderId=db3a30431400ef68011421b54e2e0564&fileId=db3a30433a747525013abff8302d549c&location=en.Products.Automotive_ICs.Smart_High-_and_Low-Side_Switches.HITFET___TEMPFET__-_Smart_Low-Side_Switches.DATASHEET.BTS117_DS_14.pdf
footprint INF-PG-TO220-3-1 (FM, 3-Leads, Body 10x4.4mm, Pitch 2.54mm)
pins: 1 GATE, 2 DRAIN, 3 SOURCE

## SPP12N50C3
designator Q?
N-Channel CoolMOS Power-Transistor, 500 V VDS, 11.6 A ID, -55 to 150 degC, PG-TO220-3-1, Tube, Green; Manufacturer: Infineon; PartNumber: SPP12N50C3; Green: TRUE; ID (max): 11.6 A; IDpuls (max): 34.8 A; Polarity: N; Ptot (max): 125 W; QG: 49 nC; RDS (on) (max): 380 mOhm; Rth: 1 K/W; RthJA (max): 62 K/W; VDS (max): 500 V; VGS(th) (max): 3.9 V; VGS(th) (min): 2.1 V; DatasheetVersion: Rev. 3.1; PackageVersion: Jul-12; PackageReference: PG-TO220-3-1; PackageDescription: 3-Pin Plastic (Green) Transistor Single Outline Package, 10 x 9.25 mm Body, 2.54 mm Pitch; Supplier 1: Mouser; Supplier Part Number 1: 726-SPP12N50C3; Supplier 2: Farnell; Supplier Part Number 2: 1095696; Supplier 3: Digi-Key; Supplier Part Number 3: SPP12N50C3IN-ND; Packing: Tube; RthJC (max): 1 K/W; Technology: CoolMOS C3; Mounting Technology: Through Hole; ComponentLink1Description: Manufacturer URL; ComponentLink1URL: http://www.infineon.com/; ComponentLink2Description: Datasheet; ComponentLink2URL: http://www.infineon.com/dgdl/SPP_I_A12N50C3_Rev.3.1.pdf?folderId=db3a304412b407950112b408e8c90004&fileId=db3a304412b407950112b42ce34347c8; ComponentLink3Description: Package Specification; ComponentLink3URL: http://www.infineon.com/dgdl/BTS117_DS_14.pdf?folderId=db3a30431400ef68011421b54e2e0564&fileId=db3a30433a747525013abff8302d549c&location=en.Products.Automotive_ICs.Smart_High-_and_Low-Side_Switches.HITFET___TEMPFET__-_Smart_Low-Side_Switches.DATASHEET.BTS117_DS_14.pdf
footprint INF-PG-TO220-3-1 (FM, 3-Leads, Body 10x4.4mm, Pitch 2.54mm)
pins: 1 GATE, 2 DRAIN, 3 SOURCE

## SPP15N60C3
designator Q?
N-Channel CoolMOS Power-Transistor, 600 V VDS, 15 A ID, -55 to 150 degC, PG-TO220-3-1, Tube, Green; Manufacturer: Infineon; PartNumber: SPP15N60C3; Green: TRUE; ID (max): 15 A; IDpuls (max): 45 A; Polarity: N; Ptot (max): 156 W; QG: 63 nC; RDS (on) (max): 280 mOhm; Rth: 0.8 K/W; RthJA (max): 62 K/W; VDS (max): 600 V; VGS(th) (max): 3.9 V; VGS(th) (min): 2.1 V; DatasheetVersion: Rev. 3.2; PackageVersion: Jul-12; PackageReference: PG-TO220-3-1; PackageDescription: 3-Pin Plastic (Green) Transistor Single Outline Package, 10 x 9.25 mm Body, 2.54 mm Pitch; Supplier 1: Mouser; Supplier Part Number 1: 726-SPP15N60C3; Supplier 2: Digi-Key; Supplier Part Number 2: SPP15N60C3IN-ND; Packing: Tube; RthJC (max): 0.8 K/W; Technology: CoolMOS C3; Mounting Technology: Through Hole; ComponentLink1Description: Manufacturer URL; ComponentLink1URL: http://www.infineon.com/; ComponentLink2Description: Datasheet; ComponentLink2URL: http://www.infineon.com/dgdl/SPP_I_A15N60C3_Rev%5B1%5D.3.2%2Bnew.pdf?folderId=db3a304412b407950112b408e8c90004&fileId=db3a304412b407950112b42de5af4910; ComponentLink3Description: Package Specification; ComponentLink3URL: http://www.infineon.com/dgdl/BTS117_DS_14.pdf?folderId=db3a30431400ef68011421b54e2e0564&fileId=db3a30433a747525013abff8302d549c&location=en.Products.Automotive_ICs.Smart_High-_and_Low-Side_Switches.HITFET___TEMPFET__-_Smart_Low-Side_Switches.DATASHEET.BTS117_DS_14.pdf
footprint INF-PG-TO220-3-1 (FM, 3-Leads, Body 10x4.4mm, Pitch 2.54mm)
pins: 1 GATE, 2 DRAIN, 3 SOURCE

## SPP15N60CFD
designator Q?
N-Channel CoolMOS Power-Transistor, 600 V VDS, 13.4 A ID, -55 to 150 degC, PG-TO220-3-1, Tube, Green; Manufacturer: Infineon; PartNumber: SPP15N60CFD; Green: TRUE; ID (max): 13.4 A; IDpuls (max): 33 A; Polarity: N; Ptot (max): 156 W; QG: 63 nC; RDS (on) (max): 330 mOhm; Rth: 0.8 K/W; RthJA (max): 62 K/W; VDS (max): 600 V; VGS(th) (max): 5 V; VGS(th) (min): 3 V; DatasheetVersion: Rev. 1.3; PackageVersion: Jul-12; PackageReference: PG-TO220-3-1; PackageDescription: 3-Pin Plastic (Green) Transistor Single Outline Package, 10 x 9.25 mm Body, 2.54 mm Pitch; Supplier 1: Mouser; Supplier Part Number 1: 726-SPP15N60CFD; Supplier 2: Digi-Key; Supplier Part Number 2: SPP15N60CFD-ND; Packing: Tube; RthJC (max): 0.8 K/W; Technology: CoolMOS CFD; Mounting Technology: Through Hole; ComponentLink1Description: Manufacturer URL; ComponentLink1URL: http://www.infineon.com/; ComponentLink2Description: Datasheet; ComponentLink2URL: http://www.infineon.com/dgdl/SPP15N60CFD_rev1.3.pdf?folderId=db3a304412b407950112b408e8c90004&fileId=db3a304412b407950112b42e8cee49eb; ComponentLink3Description: Package Specification; ComponentLink3URL: http://www.infineon.com/dgdl/BTS117_DS_14.pdf?folderId=db3a30431400ef68011421b54e2e0564&fileId=db3a30433a747525013abff8302d549c&location=en.Products.Automotive_ICs.Smart_High-_and_Low-Side_Switches.HITFET___TEMPFET__-_Smart_Low-Side_Switches.DATASHEET.BTS117_DS_14.pdf
footprint INF-PG-TO220-3-1 (FM, 3-Leads, Body 10x4.4mm, Pitch 2.54mm)
pins: 1 GATE, 2 DRAIN, 3 SOURCE

## SPP15N65C3
designator Q?
N-Channel CoolMOS Power-Transistor, 650 V VDS, 15 A ID, -55 to 150 degC, PG-TO220-3-1, Tube, Green; Manufacturer: Infineon; PartNumber: SPP15N65C3; Green: TRUE; ID (max): 15 A; IDpuls (max): 45 A; Polarity: N; Ptot (max): 156 W; QG: 63 nC; RDS (on) (max): 280 mOhm; Rth: 0.8 K/W; RthJA (max): 62 K/W; VDS (max): 650 V; VGS(th) (max): 3.9 V; VGS(th) (min): 2.1 V; DatasheetVersion: Rev. 2.0; PackageVersion: Jul-12; PackageReference: PG-TO220-3-1; PackageDescription: 3-Pin Plastic (Green) Transistor Single Outline Package, 10 x 9.25 mm Body, 2.54 mm Pitch; Supplier 1: Digi-Key; Supplier Part Number 1: SPP15N65C3-ND; Packing: Tube; RthJC (max): 0.8 K/W; Technology: CoolMOS C3; Mounting Technology: Through Hole; ComponentLink1Description: Manufacturer URL; ComponentLink1URL: http://www.infineon.com/; ComponentLink2Description: Datasheet; ComponentLink2URL: http://www.infineon.com/dgdl/SPP15N65C3_Rev_2_0.pdf?folderId=db3a304314dca38901152837f87d12ad&fileId=db3a30431689f4420116d3dfe9f40c78; ComponentLink3Description: Package Specification; ComponentLink3URL: http://www.infineon.com/dgdl/BTS117_DS_14.pdf?folderId=db3a30431400ef68011421b54e2e0564&fileId=db3a30433a747525013abff8302d549c&location=en.Products.Automotive_ICs.Smart_High-_and_Low-Side_Switches.HITFET___TEMPFET__-_Smart_Low-Side_Switches.DATASHEET.BTS117_DS_14.pdf
footprint INF-PG-TO220-3-1 (FM, 3-Leads, Body 10x4.4mm, Pitch 2.54mm)
pins: 1 GATE, 2 DRAIN, 3 SOURCE

## SPP15P10P H
designator Q?
P-Channel SIPMOS Small-Signal-Transistor, -100 V VDS, -15 A ID, -55 to 175 degC, PG-TO220-3-1, Tube, Green; Manufacturer: Infineon; PartNumber: SPP15P10P H; Green: TRUE; ID (max): -15 A; IDpuls (max): -60 A; Pto t (max): 128 W; QG: 37 nC; RDS (on) (max): 240 mOhm; Rth: 1.17 K/W; VDS (max): -100 V; VGS(th) (max): -2.1 V; VGS(th) (min): -4 V; DatasheetVersion: Rev. 1.7; PackageVersion: Rev. 05, 08/2007; PackageReference: PG-TO220-3-1; PackageDescription: 3-Pin Plastic (Green) Transistor Single Outline Package, 10.03 x 8.98 mm Body, 2.54 mm Pitch; Supplier 1: Mouser; Supplier Part Number 1: 726-SPP15P10PH; Supplier 2: Digi-Key; Supplier Part Number 2: SPP15P10P H-ND; Halogen-free: TRUE; Packing: Tube; RthJC (max): 1.17 K/W; Mounting Technology: Through Hole; ComponentLink1Description: Manufacturer URL; ComponentLink1URL: http://www.infineon.com/; ComponentLink2Description: Datasheet; ComponentLink2URL: http://www.infineon.com/dgdl/SPP15P10P+H+G_Rev1.7.pdf?folderId=db3a304314dca38901154a72e3951a65&fileId=db3a3043321e49940132246d96be5a7e; ComponentLink3Description: Package Specification; ComponentLink3URL: http://www.infineon.com/dgdl/IPP028N08N3_Rev1%5B1%5D.0.pdf?folderId=db3a304313b8b5a60113cee8763b02d7&fileId=db3a30432313ff5e0123a3c08e7326b5
footprint INF-PG-TO220-3-1_A_V (FM, 3-Leads, Body 10.03x8.98mm, Pitch 2.54mm)
pins: 1 GATE, 2 DRAIN, 3 SOURCE

## SPP15P10PL H
designator Q?
P-Channel SIPMOS Power-Transistor, -100 V VDS, -15 A ID, -55 to 175 degC, PG-TO220-3-1, Tube, Green; Manufacturer: Infineon; PartNumber: SPP15P10PL H; Green: TRUE; ID (max): -15 A; IDpuls (max): -60 A; Pto t (max): 128 W; QG: 47 nC; RDS (on) (max): 200 mOhm; RDS (on) (max) (@4.5V): 270 mOhm; Rth: 1.17 K/W; VDS (max): -100 V; VGS(th) (max): -2 V; VGS(th) (min): -1 V; DatasheetVersion: Rev. 1.4; PackageVersion: Rev. 05, 08/2007; PackageReference: PG-TO220-3-1; PackageDescription: 3-Pin Plastic (Green) Transistor Single Outline Package, 10.03 x 8.98 mm Body, 2.54 mm Pitch; Supplier 1: Mouser; Supplier Part Number 1: 726-SPP15P10PLH; Supplier 2: Digi-Key; Supplier Part Number 2: SPP15P10PL H-ND; Halogen-free: TRUE; Packing: Tube; RthJC (max): 1.17 K/W; Mounting Technology: Through Hole; ComponentLink1Description: Manufacturer URL; ComponentLink1URL: http://www.infineon.com/; ComponentLink2Description: Datasheet; ComponentLink2URL: http://www.infineon.com/dgdl/SPP15P10PL+H_Rev1.4.pdf?folderId=db3a3043156fd5730115d6a107c41454&fileId=db3a304325afd6e001264b6ae1090c81; ComponentLink3Description: Package Specification; ComponentLink3URL: http://www.infineon.com/dgdl/IPP028N08N3_Rev1%5B1%5D.0.pdf?folderId=db3a304313b8b5a60113cee8763b02d7&fileId=db3a30432313ff5e0123a3c08e7326b5
footprint INF-PG-TO220-3-1_A_V (FM, 3-Leads, Body 10.03x8.98mm, Pitch 2.54mm)
pins: 1 GATE, 2 DRAIN, 3 SOURCE

## SPP16N50C3
designator Q?
N-Channel CoolMOS Power-Transistor, 500 V VDS, 16 A ID, -55 to 150 degC, PG-TO220-3-1, Tube, Green; Manufacturer: Infineon; PartNumber: SPP16N50C3; Green: TRUE; ID (max): 16 A; IDpuls (max): 48 A; Polarity: N; Ptot (max): 160 W; QG: 66 nC; RDS (on) (max): 280 mOhm; Rth: 0.78 K/W; RthJA (max): 62 K/W; VDS (max): 500 V; VGS(th) (max): 3.9 V; VGS(th) (min): 2.1 V; DatasheetVersion: Rev. 3.2; PackageVersion: Jul-12; PackageReference: PG-TO220-3-1; PackageDescription: 3-Pin Plastic (Green) Transistor Single Outline Package, 10 x 9.25 mm Body, 2.54 mm Pitch; Supplier 1: Mouser; Supplier Part Number 1: 726-SPP16N50C3; Supplier 2: Digi-Key; Supplier Part Number 2: SPP16N50C3IN-ND; Packing: Tube; RthJC (max): 0.78 K/W; Technology: CoolMOS C3; Mounting Technology: Through Hole; ComponentLink1Description: Manufacturer URL; ComponentLink1URL: http://www.infineon.com/; ComponentLink2Description: Datasheet; ComponentLink2URL: http://www.infineon.com/dgdl/SPP_I_A16N50C3_Rev%5B1%5D.3.2%2Bnew.pdf?folderId=db3a304412b407950112b408e8c90004&fileId=db3a304412b407950112b42d175b4803; ComponentLink3Description: Package Specification; ComponentLink3URL: http://www.infineon.com/dgdl/BTS117_DS_14.pdf?folderId=db3a30431400ef68011421b54e2e0564&fileId=db3a30433a747525013abff8302d549c&location=en.Products.Automotive_ICs.Smart_High-_and_Low-Side_Switches.HITFET___TEMPFET__-_Smart_Low-Side_Switches.DATASHEET.BTS117_DS_14.pdf
footprint INF-PG-TO220-3-1 (FM, 3-Leads, Body 10x4.4mm, Pitch 2.54mm)
pins: 1 GATE, 2 DRAIN, 3 SOURCE

## SPP17N80C3
designator Q?
N-Channel CoolMOS Power-Transistor, 800 V VDS, 17 A ID, -55 to 150 degC, PG-TO220-3-1, Tube, Green; Manufacturer: Infineon; PartNumber: SPP17N80C3; Green: TRUE; ID (max): 17 A; IDpuls (max): 51 A; Polarity: N; Ptot (max): 227 W; QG: 88 nC; RDS (on) (max): 290 mOhm; Rth: 0.6 K/W; RthJA (max): 62 K/W; RthJC (max): 0.55 K/W; VDS (max): 800 V; VGS(th) (max): 3.9 V; VGS(th) (min): 2.1 V; DatasheetVersion: Rev. 2.91; PackageVersion: Jul-12; PackageReference: PG-TO220-3-1; PackageDescription: 3-Pin Plastic (Green) Transistor Single Outline Package, 10 x 9.25 mm Body, 2.54 mm Pitch; Supplier 1: Mouser; Supplier Part Number 1: 726-SPP17N80C3; Supplier 2: Digi-Key; Supplier Part Number 2: SPP17N80C3IN-ND; Halogen-free: TRUE; Packing: Tube; Technology: CoolMOS C3; Mounting Technology: Through Hole; ComponentLink1Description: Manufacturer URL; ComponentLink1URL: http://www.infineon.com/; ComponentLink2Description: Datasheet; ComponentLink2URL: http://www.infineon.com/dgdl/SPP17N80C3_rev2.91.pdf?folderId=db3a3043163797a6011638491238009b&fileId=db3a30432313ff5e0123a9174c6d5caa; ComponentLink3Description: Package Specification; ComponentLink3URL: http://www.infineon.com/dgdl/BTS117_DS_14.pdf?folderId=db3a30431400ef68011421b54e2e0564&fileId=db3a30433a747525013abff8302d549c&location=en.Products.Automotive_ICs.Smart_High-_and_Low-Side_Switches.HITFET___TEMPFET__-_Smart_Low-Side_Switches.DATASHEET.BTS117_DS_14.pdf
footprint INF-PG-TO220-3-1 (FM, 3-Leads, Body 10x4.4mm, Pitch 2.54mm)
pins: 1 GATE, 2 DRAIN, 3 SOURCE

## SPP18P06P H
designator Q?
P-Channel SIPMOS Power-Transistor, -60 V VDS, -18.7 A ID, -55 to 175 degC, PG-TO220-3-1, Tube, Green; Manufacturer: Infineon; PartNumber: SPP18P06P H; Green: TRUE; ID (max): -18.7 A; IDpuls (max): -74.8 A; Pto t (max): 81.1 W; QG: -21 nC; RDS (on) (max): 130 mOhm; Rth: 1.85 K/W; VDS (max): -60 V; VGS(th) (max): -4 V; VGS(th) (min): -2.1 V; DatasheetVersion: Rev. 1.91; PackageVersion: Rev. 05, 08/2007; PackageReference: PG-TO220-3-1; PackageDescription: 3-Pin Plastic (Green) Transistor Single Outline Package, 10.03 x 8.98 mm Body, 2.54 mm Pitch; Supplier 1: Mouser; Supplier Part Number 1: 726-SPP18P06PH; Supplier 2: Newark; Supplier Part Number 2: 79X1965; Supplier 3: Farnell; Supplier Part Number 3: 2432733; Supplier 4: Digi-Key; Supplier Part Number 4: SPP18P06P H-ND; Halogen-free: TRUE; Packing: Tube; RthJC (max): 1.85 K/W; Mounting Technology: Through Hole; ComponentLink1Description: Manufacturer URL; ComponentLink1URL: http://www.infineon.com/; ComponentLink2Description: Datasheet; ComponentLink2URL: http://www.infineon.com/dgdl/SPP18P06P+H_Rev1.91.pdf?folderId=db3a3043156fd5730115d6a107c41454&fileId=db3a304325afd6e001264bac716c0c95; ComponentLink3Description: Package Specification; ComponentLink3URL: http://www.infineon.com/dgdl/IPP028N08N3_Rev1%5B1%5D.0.pdf?folderId=db3a304313b8b5a60113cee8763b02d7&fileId=db3a30432313ff5e0123a3c08e7326b5
footprint INF-PG-TO220-3-1_A_V (FM, 3-Leads, Body 10.03x8.98mm, Pitch 2.54mm)
pins: 1 GATE, 2 DRAIN, 3 SOURCE

## SPP20N60C3
designator Q?
N-Channel CoolMOS Power-Transistor, 600 V VDS, 20.7 A ID, -55 to 150 degC, PG-TO220-3-1, Tube, Green; Manufacturer: Infineon; PartNumber: SPP20N60C3; Green: TRUE; ID (max): 20.7 A; IDpuls (max): 62.1 A; Polarity: N; Ptot (max): 208 W; QG: 87 nC; RDS (on) (max): 190 mOhm; Rth: 0.6 K/W; RthJA (max): 62 K/W; VDS (max): 600 V; VGS(th) (max): 3.9 V; VGS(th) (min): 2.1 V; DatasheetVersion: Rev. 3.2; PackageVersion: Jul-12; PackageReference: PG-TO220-3-1; PackageDescription: 3-Pin Plastic (Green) Transistor Single Outline Package, 10 x 9.25 mm Body, 2.54 mm Pitch; Supplier 1: Mouser; Supplier Part Number 1: 726-SPP20N60C3; Supplier 2: Newark; Supplier Part Number 2: 95W8643; Supplier 3: Farnell; Supplier Part Number 3: 2325467; Supplier 4: Digi-Key; Supplier Part Number 4: SPP20N60C3IN-ND; Packing: Tube; RthJC (max): 0.6 K/W; Technology: CoolMOS C3; Mounting Technology: Through Hole; ComponentLink1Description: Manufacturer URL; ComponentLink1URL: http://www.infineon.com/; ComponentLink2Description: Datasheet; ComponentLink2URL: http://www.infineon.com/dgdl/SPP_I_A20N60C3_Rev3.2.pdf?folderId=db3a304412b407950112b408e8c90004&fileId=db3a304412b407950112b42d841f488f; ComponentLink3Description: Package Specification; ComponentLink3URL: http://www.infineon.com/dgdl/BTS117_DS_14.pdf?folderId=db3a30431400ef68011421b54e2e0564&fileId=db3a30433a747525013abff8302d549c&location=en.Products.Automotive_ICs.Smart_High-_and_Low-Side_Switches.HITFET___TEMPFET__-_Smart_Low-Side_Switches.DATASHEET.BTS117_DS_14.pdf
footprint INF-PG-TO220-3-1 (FM, 3-Leads, Body 10x4.4mm, Pitch 2.54mm)
pins: 1 GATE, 2 DRAIN, 3 SOURCE

## SPP20N60CFD
designator Q?
N-Channel CoolMOS Power-Transistor, 600 V VDS, 20.7 A ID, -55 to 150 degC, PG-TO220-3-1, Tube, Green; Manufacturer: Infineon; PartNumber: SPP20N60CFD; Green: TRUE; ID (max): 20.7 A; IDpuls (max): 52 A; Polarity: N; Ptot (max): 208 W; QG: 95 nC; RDS (on) (max): 220 mOhm; Rth: 0.6 K/W; RthJA (max): 62 K/W; VDS (max): 600 V; VGS(th) (max): 5 V; VGS(th) (min): 3 V; DatasheetVersion: Rev. 2.6; PackageVersion: Jul-12; PackageReference: PG-TO220-3-1; PackageDescription: 3-Pin Plastic (Green) Transistor Single Outline Package, 10 x 9.25 mm Body, 2.54 mm Pitch; Supplier 1: Mouser; Supplier Part Number 1: 726-SPP20N60CFD; Supplier 2: Digi-Key; Supplier Part Number 2: SPP20N60CFDIN-ND; Packing: Tube; RthJC (max): 0.6 K/W; Technology: CoolMOS CFD; Mounting Technology: Through Hole; ComponentLink1Description: Manufacturer URL; ComponentLink1URL: http://www.infineon.com/; ComponentLink2Description: Datasheet; ComponentLink2URL: http://www.infineon.com/dgdl/SPP20N60CFD_Rev.2.6.pdf?folderId=db3a304412b407950112b408e8c90004&fileId=db3a304412b407950112b42bffe24649; ComponentLink3Description: Package Specification; ComponentLink3URL: http://www.infineon.com/dgdl/BTS117_DS_14.pdf?folderId=db3a30431400ef68011421b54e2e0564&fileId=db3a30433a747525013abff8302d549c&location=en.Products.Automotive_ICs.Smart_High-_and_Low-Side_Switches.HITFET___TEMPFET__-_Smart_Low-Side_Switches.DATASHEET.BTS117_DS_14.pdf
footprint INF-PG-TO220-3-1 (FM, 3-Leads, Body 10x4.4mm, Pitch 2.54mm)
pins: 1 GATE, 2 DRAIN, 3 SOURCE